# Altium footprint library PcbLib1.PcbLib: 35 footprints (part 2 of 3)
Each footprint in its own frame and in the unit in brackets; x right, y up, seen from the top. Pads: shape width x height; smd on the part's side, far side on the other; paste and mask are expansions set on the pad; w line width, h text height; cw(c..) or ccw(c..) is an arc to the next point about the centre after c.
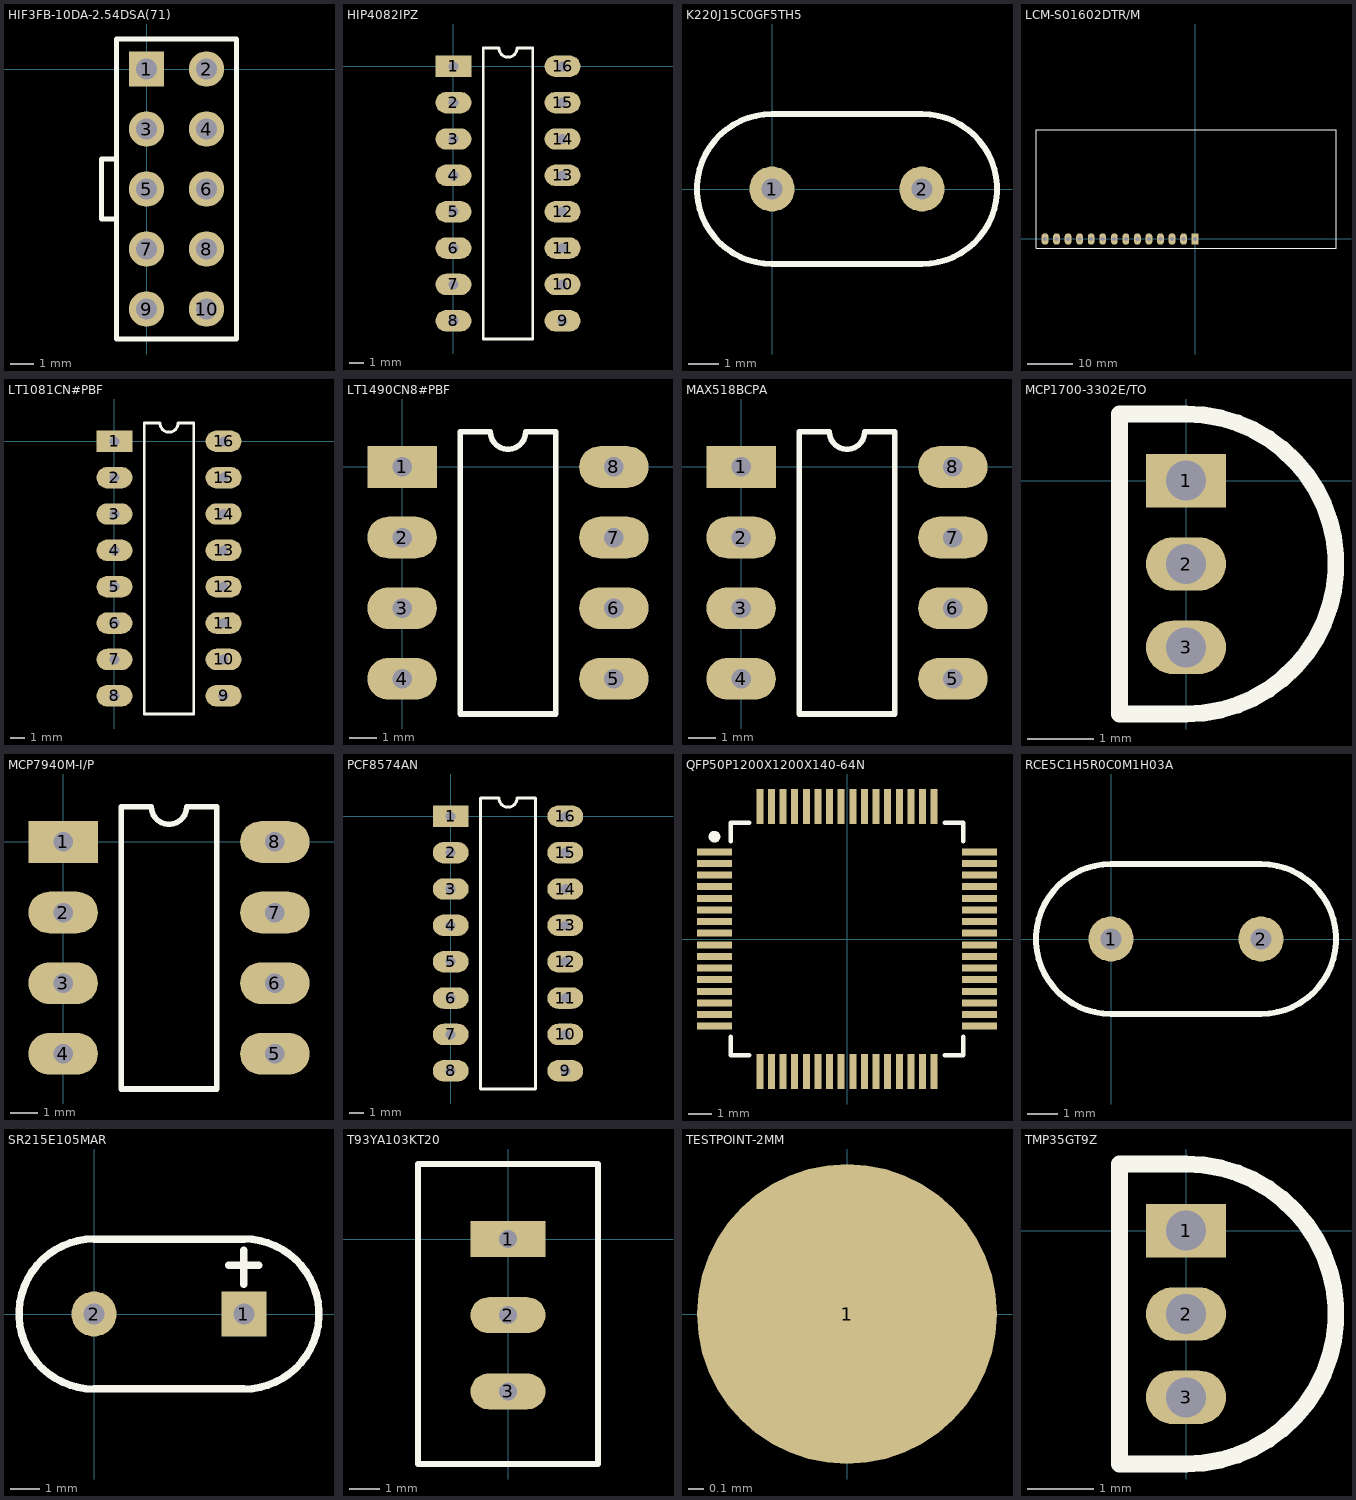
[diagram p1: the footprints below, top view; thin cyan lines are the x and y axes]

## HIF3FB-10DA-2.54DSA(71) [mm]
pads (10):
  rect 1.5x1.5 hole 0.9: 1(0,0)
  round 1.5 hole 0.9: 2(2.54,0) 3(0,-2.54) 4(2.54,-2.54) 5(0,-5.08) 6(2.54,-5.08) 7(0,-7.62) 8(2.54,-7.62) 9(0,-10.16) 10(2.54,-10.16)
Top Overlay:
  lines w0.2: -1.905,-5.715 -1.905,-5.08 ; -1.27,-6.35 -1.905,-6.35 -1.905,-3.81 -1.27,-3.81 ; 0.635,1.27 3.81,1.27 3.81,-11.43 -1.27,-11.43 -1.27,1.27 1.905,1.27

## HIP4082IPZ [mm]
pads (16):
  rect 2.5x1.5 hole 0.7: 1(0,0)
  oval 2.5x1.5 hole 0.7: 2(0,-2.54) 3(0,-5.08) 4(0,-7.62) 5(0,-10.16) 6(0,-12.7) 7(0,-15.24) 8(0,-17.78) 9(7.62,-17.78) 10(7.62,-15.24) 11(7.62,-12.7) 12(7.62,-10.16) 13(7.62,-7.62) 14(7.62,-5.08) 15(7.62,-2.54) 16(7.62,0)
Top Overlay:
  lines w0.2: 2.085,-19.05 2.085,1.27 3.175,1.27 ccw(c3.81,1.27) 4.445,1.27 5.535,1.27 5.535,-19.05 2.085,-19.05

## K220J15C0GF5TH5 [mm]
pads (2):
  round 1.5 hole 0.7: 1(0,0) 2(5,0)
Top Overlay:
  lines w0.2: 0,-2.5 cw(c0,0) 0,2.5 5,2.5 cw(c5,0) 5,-2.5 0,-2.5

## LCM-S01602DTR/M [mm]
pads (14):
  rect 1.5x2.5 hole 0.9: 1(0,0)
  oval 1.5x2.5 hole 0.9: 2(-2.54,0) 3(-5.08,0) 4(-7.62,0) 5(-10.16,0) 6(-12.7,0) 7(-15.24,0) 8(-17.78,0) 9(-20.32,0) 10(-22.86,0) 11(-25.4,0) 12(-27.94,0) 13(-30.48,0) 14(-33.02,0)
Top Overlay:
  lines w0.254: -35,-2 -35,24 31,24 31,-2 -35,-2

## LT1081CN#PBF [mm]
pads (16):
  rect 2.5x1.5 hole 0.7: 1(0,0)
  oval 2.5x1.5 hole 0.7: 2(0,-2.54) 3(0,-5.08) 4(0,-7.62) 5(0,-10.16) 6(0,-12.7) 7(0,-15.24) 8(0,-17.78) 9(7.62,-17.78) 10(7.62,-15.24) 11(7.62,-12.7) 12(7.62,-10.16) 13(7.62,-7.62) 14(7.62,-5.08) 15(7.62,-2.54) 16(7.62,0)
Top Overlay:
  lines w0.2: 2.085,-19.05 2.085,1.27 3.175,1.27 ccw(c3.81,1.27) 4.445,1.27 5.535,1.27 5.535,-19.05 2.085,-19.05

## LT1490CN8#PBF [mm]
pads (8):
  rect 2.5x1.5 hole 0.7: 1(0,0)
  oval 2.5x1.5 hole 0.7: 2(0,-2.54) 3(0,-5.08) 4(0,-7.62) 5(7.62,-7.62) 6(7.62,-5.08) 7(7.62,-2.54) 8(7.62,0)
Top Overlay:
  lines w0.2: 2.085,-8.89 2.085,1.27 3.175,1.27 ccw(c3.81,1.27) 4.445,1.27 5.535,1.27 5.535,-8.89 2.085,-8.89

## MAX518BCPA [mm]
pads (8):
  rect 2.5x1.5 hole 0.7: 1(0,0)
  oval 2.5x1.5 hole 0.7: 2(0,-2.54) 3(0,-5.08) 4(0,-7.62) 5(7.62,-7.62) 6(7.62,-5.08) 7(7.62,-2.54) 8(7.62,0)
Top Overlay:
  lines w0.2: 2.085,-8.89 5.535,-8.89 5.535,1.27 4.445,1.27 cw(c3.81,1.27) 3.175,1.27 2.085,1.27 2.085,-8.89

## MCP1700-3302E/TO [mm]
pads (3):
  rect 1.2x0.8 hole 0.6: 1(0,0)
  oval 1.2x0.8 hole 0.6: 2(0,-1.25) 3(0,-2.5)
Top Overlay:
  lines w0.254: -1,-3.5 -1,1 0,1 cw(c0,-1.25) 0,-3.5 -1,-3.5

## MCP7940M-I/P [mm]
pads (8):
  rect 2.5x1.5 hole 0.7: 1(0,0)
  oval 2.5x1.5 hole 0.7: 2(0,-2.54) 3(0,-5.08) 4(0,-7.62) 5(7.62,-7.62) 6(7.62,-5.08) 7(7.62,-2.54) 8(7.62,0)
Top Overlay:
  lines w0.2: 2.085,-8.89 5.535,-8.89 5.535,1.27 4.445,1.27 cw(c3.81,1.27) 3.175,1.27 2.085,1.27 2.085,-8.89

## PCF8574AN [mm]
pads (16):
  rect 2.5x1.5 hole 0.7: 1(0,0)
  oval 2.5x1.5 hole 0.7: 2(0,-2.54) 3(0,-5.08) 4(0,-7.62) 5(0,-10.16) 6(0,-12.7) 7(0,-15.24) 8(0,-17.78) 9(8,-17.78) 10(8,-15.24) 11(8,-12.7) 12(8,-10.16) 13(8,-7.62) 14(8,-5.08) 15(8,-2.54) 16(8,0)
Top Overlay:
  lines w0.2: 2.085,-19.05 5.915,-19.05 5.915,1.27 4.635,1.27 cw(c4,1.27) 3.365,1.27 2.085,1.27 2.085,-19.05

## QFP50P1200X1200X140-64N [mm] "QFP,0.50mm pitch, square;64 pin,12.00mm L X 12.00mm W X 1.40mm H body"
height 1.4
pads (64):
  rect 1.5x0.3 smd: 1(-5.7,3.75) 2(-5.7,3.25) 3(-5.7,2.75) 4(-5.7,2.25) 5(-5.7,1.75) 6(-5.7,1.25) 7(-5.7,0.75) 8(-5.7,0.25) 9(-5.7,-0.25) 10(-5.7,-0.75) 11(-5.7,-1.25) 12(-5.7,-1.75) 13(-5.7,-2.25) 14(-5.7,-2.75) 15(-5.7,-3.25) 16(-5.7,-3.75) 33(5.7,-3.75) 34(5.7,-3.25) 35(5.7,-2.75) 36(5.7,-2.25) 37(5.7,-1.75) 38(5.7,-1.25) 39(5.7,-0.75) 40(5.7,-0.25) 41(5.7,0.25) 42(5.7,0.75) 43(5.7,1.25) 44(5.7,1.75) 45(5.7,2.25) 46(5.7,2.75) 47(5.7,3.25) 48(5.7,3.75)
  rect 0.3x1.5 smd: 17(-3.75,-5.7) 18(-3.25,-5.7) 19(-2.75,-5.7) 20(-2.25,-5.7) 21(-1.75,-5.7) 22(-1.25,-5.7) 23(-0.75,-5.7) 24(-0.25,-5.7) 25(0.25,-5.7) 26(0.75,-5.7) 27(1.25,-5.7) 28(1.75,-5.7) 29(2.25,-5.7) 30(2.75,-5.7) 31(3.25,-5.7) 32(3.75,-5.7) 49(3.75,5.7) 50(3.25,5.7) 51(2.75,5.7) 52(2.25,5.7) 53(1.75,5.7) 54(1.25,5.7) 55(0.75,5.7) 56(0.25,5.7) 57(-0.25,5.7) 58(-0.75,5.7) 59(-1.25,5.7) 60(-1.75,5.7) 61(-2.25,5.7) 62(-2.75,5.7) 63(-3.25,5.7) 64(-3.75,5.7)
Top Overlay:
  circle w0.25: c-5.7,4.4 r0.125
  lines w0.203: -5,-4.2 -5,-5 -4.2,-5 ; -5,4.2 -5,5 -4.2,5 ; 4.2,-5 5,-5 5,-4.2 ; 4.2,5 5,5 5,4.2
3D body: height 1.4, standoff 0.1, extent -5,-5 5,5

## RCE5C1H5R0C0M1H03A [mm]
pads (2):
  round 1.5 hole 0.7: 1(0,0) 2(5,0)
Top Overlay:
  lines w0.2: 0,-2.5 cw(c0,0) 0,2.5 5,2.5 cw(c5,0) 5,-2.5 0,-2.5

## SR215E105MAR [mil] "1 uF, 50 V Ceramic Capacitor"
pads (2):
  rect 60x60 hole 28: 1(200,0)
  round 60 hole 28: 2(0,0)
Top Overlay:
  lines w10: 180,65 220,65 ; 200,40 200,85 ; 0,-100 cw(c0,0) 0,100 200,100 cw(c200,0) 200,-100 0,-100

## T93YA103KT20 [mm]
pads (3):
  rect 2.5x1.2 hole 0.6: 1(0,0)
  oval 2.5x1.2 hole 0.6: 2(0,-2.54) 3(0,-5.08)
Top Overlay:
  lines w0.2: -3,-7.5 3,-7.5 3,2.5 -3,2.5 -3,-7.5

## TESTPOINT-2MM [mm]
pads (1):
  round 2 smd: 1(0,0)

## TMP35GT9Z [mm]
pads (3):
  rect 1.2x0.8 hole 0.6: 1(0,0)
  oval 1.2x0.8 hole 0.6: 2(0,-1.25) 3(0,-2.5)
Top Overlay:
  lines w0.254: -1,-3.5 0,-3.5 ccw(c0,-1.25) 0,1 -1,1 -1,-3.5